# Altium schematic symbol library E2S_E2S_034_V1_BLE_Gateway.SchLib: 12 symbols
Pins are listed as number, name and electrical type; pins without a type are passive.

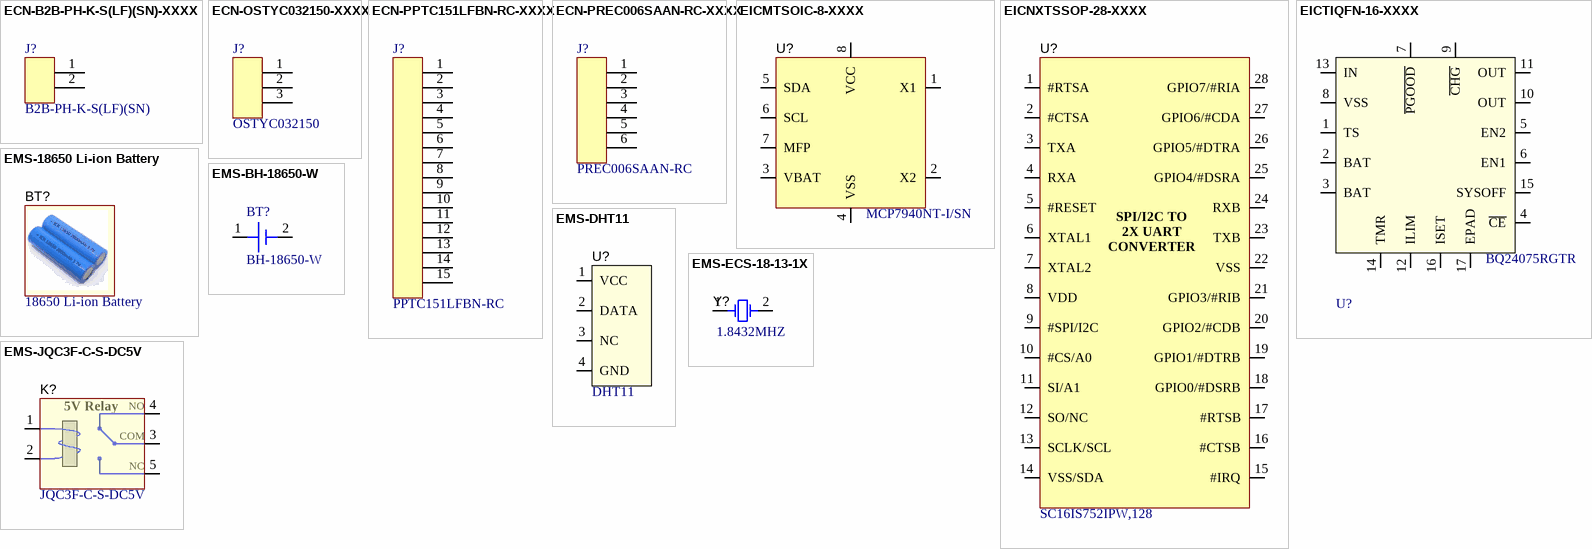
[diagram p0: symbols ECN-B2B-PH-K-S(LF)(SN)-XXXX to EMS-JQC3F-C-S-DC5V]

## ECN-B2B-PH-K-S(LF)(SN)-XXXX
designator J?, comment value B2B-PH-K-S(LF)(SN)  (hidden comment: CONN HEADER VERT 2POS 2MM)
Vendor Part Number: 455-1704-ND; Manufacturer: JST Sales America Inc.; Internal Part Number: ECN-B2B-PH-K-S(LF)(SN)-XXXX; 1st Auxiliary Field: 100V; 2nd Auxiliary Field: 2A; 3rd Auxiliary Field: ROHS3 Compliant; Vendor Name: Digi-Key; Component Height (mm): 6mm; Temp Co: -25°C ~ 85°C; Part Type: CONN HEADER VERT 2POS 2MM; Manufacturer Part Number: B2B-PH-K-S(LF)(SN); 4th Auxiliary Field: 2mm
footprint JST_B2B-PH-K-S(LF)(SN) (CONN HEADER PH SIDE 2POS 2MM)
pins: 1, 2

## ECN-OSTYC032150-XXXX
designator J?, comment value OSTYC032150  (hidden comment: TERM BLK 3P SIDE ENT 5.08MM PCB)
Vendor Part Number: ED2903-ND; Manufacturer: On Shore Technology Inc.; Internal Part Number: ECN-OSTYC032150-XXXX; 1st Auxiliary Field: 300V; 2nd Auxiliary Field: 10A; 3rd Auxiliary Field: ROHS3 Compliant; 4th Auxiliary Field: 3 Pos; Vendor Name: Digi-Key; Component Height (mm): 10mm; Temp Co: -30°C ~ 105°C; Part Type: TERM BLK 3P SIDE ENT 5.08MM PCB; Manufacturer Part Number: OSTYC032150
footprint ONSHORE_OSTYC032150 (TERM BLK 3P SIDE ENT 5.08MM PCB)
pins: 1, 2, 3

## ECN-PPTC151LFBN-RC-XXXX
designator J?, comment value PPTC151LFBN-RC  (hidden comment: CONN HDR 15POS 0.1 TIN PCB)
Vendor Part Number: S7013-ND; Manufacturer: Sullins Connector Solutions; Internal Part Number: ECN-PPTC151LFBN-RC-XXXX; 1st Auxiliary Field: 250V; 2nd Auxiliary Field: 3A; 3rd Auxiliary Field: ROHS3 Compliant; Vendor Name: Digi-Key; Component Height (mm): 8.51mm; Temp Co: -40°C ~ 105°C; Part Type: CONN HDR 15POS 0.1 TIN PCB; Manufacturer Part Number: PPTC151LFBN-RC; 4th Auxiliary Field: 15 Pos
footprint SULLINS_PPTC151LFBN-RC (CONN HDR 15POS 0.1 TIN PCB)
pins: 1, 2, 3, 4, 5, 6, 7, 8, 9, 10, 11, 12, 13, 14, 15

## ECN-PREC006SAAN-RC-XXXX
designator J?, comment value PREC006SAAN-RC  (hidden comment: CONN HEADER VERT 6POS 2.54MM)
Vendor Part Number: S1012EC-06-ND; Manufacturer: Sullins Connector Solutions; Internal Part Number: ECN-PREC006SAAN-RC-XXXX; 2nd Auxiliary Field: 3A per Contact; 3rd Auxiliary Field: ROHS3 Compliant; Vendor Name: Digi-Key; Component Height (mm): 8.34mm; Temp Co: -40°C ~ 105°C; Part Type: CONN HEADER VERT 6POS 2.54MM; 1st Auxiliary Field: 2.54mm; Manufacturer Part Number: PREC006SAAN-RC; 4th Auxiliary Field: 6 Pos
footprint HDRV6W64P254_1X6_1524X254X834P (CONN HEADER VERT 6POS 2.54MM)
pins: 1, 2, 3, 4, 5, 6

## EICMTSOIC-8-XXXX
designator U?, comment value MCP7940NT-I/SN  (hidden comment: IC RTC CLK/CALENDAR I2C 8-SOIC)
Manufacturer: Microchip Technology; Internal Part Number: EICMTSOIC-8-XXXX; Vendor Part Number: MCP7940NT-I/SNCT-ND; 3rd Auxiliary Field: ROHS3 Compliant; Component Height (mm): 1.75mm; Temp Co: -40°C ~ 85°C; 4th Auxiliary Field: I²C, 2-Wire Serial; Vendor Name: Digi-Key; 1st Auxiliary Field: 1.8V ~ 5.5V; 2nd Auxiliary Field: 1.2µA @ 3.3V; Manufacturer Part Number: MCP7940NT-I/SN; Part Type: IC RTC CLK/CALENDAR I2C 8-SOIC
footprint SOIC127P600X175-8N (LM555CMX, IC OSC SINGLE TIMER 8-SOP)
pins: 1 X1, 2 X2, 3 VBAT, 4 VSS, 5 SDA, 6 SCL, 7 MFP, 8 VCC

## EICNXTSSOP-28-XXXX
designator U?, comment value SC16IS752IPW,128  (hidden comment: IC DUAL UART 64BYTE 28TSSOP)
Manufacturer: NXP USA Inc.; Internal Part Number: EICNXTSSOP-28-XXXX; Vendor Part Number: 568-11944-1-ND; 3rd Auxiliary Field: ROHS3 Compliant; Component Height (mm): 1.1mm; Temp Co: -40°C ~ 95°C; 4th Auxiliary Field: I²C, SPI, UART; Vendor Name: Digi-Key; 1st Auxiliary Field: 2.5V, 3.3V; 2nd Auxiliary Field: 2mA; Manufacturer Part Number: SC16IS752IPW,128; Part Type: IC DUAL UART 64BYTE 28TSSOP
footprint TSOP65P640X110-28N (TSOP, 28-Leads, Body 9.70x4.40mm, Pitch 0.65mm, IPC Medium Density)
pins: 1 #RTSA, 2 #CTSA, 3 TXA, 4 RXA, 5 #RESET, 6 XTAL1, 7 XTAL2, 8 VDD, 9 #SPI/I2C, 10 #CS/A0, 11 SI/A1, 12 SO/NC, 13 SCLK/SCL, 14 VSS/SDA, 15 #IRQ, 16 #CTSB, 17 #RTSB, 18 GPIO0/#DSRB, 19 GPIO1/#DTRB, 20 GPIO2/#CDB, 21 GPIO3/#RIB, 22 VSS, 23 TXB, 24 RXB, 25 GPIO4/#DSRA, 26 GPIO5/#DTRA, 27 GPIO6/#CDA, 28 GPIO7/#RIA
text: SPI/I2C TO / 2X UART / CONVERTER

## EICTIQFN-16-XXXX
designator U?, comment value BQ24075RGTR  (hidden comment: IC BATT CHG LI-ION 1CELL 16QFN)
Manufacturer: Texas Instruments; Internal Part Number: EICTIQFN-16-XXXX; Vendor Part Number: 296-38874-1-ND; 3rd Auxiliary Field: ROHS3 Compliant; Component Height (mm): 13.46mm; Temp Co: -40°C ~ 125°C (TJ); 4th Auxiliary Field: 4.2V; Vendor Name: Digi-Key; 1st Auxiliary Field: 6.4V; 2nd Auxiliary Field: 1.5A; Manufacturer Part Number: BQ24075RGTR; Part Type: IC BATT CHG LI-ION 1CELL 16QFN
footprint QFN50P300X300X100_HS-17N (QFN, 16-Leads, Body 3.00x3.00mm, Pitch 0.50mm, Thermal Pad 1.45x1.45mm, IPC Medium Density)
pins: 1 TS, 2 BAT, 3 BAT, 4 ~{CE}, 5 EN2, 6 EN1, 7 ~{PGOOD}, 8 VSS, 9 ~{CHG}, 10 OUT, 11 OUT, 12 ILIM, 13 IN, 14 TMR, 15 SYSOFF, 16 ISET, 17 EPAD

## EMS-18650 Li-ion Battery
designator BT?, comment value 18650 Li-ion Battery  (hidden comment: LITHIUM-ION RECHARGEABLE CELL 3.7V 2000MAH)  (mechanical)
Manufacturer: Robokits; Internal Part Number: EMS-18650 Li-ion Battery; Manufacturer Part Number: 18650 Li-ion Battery; 3rd Auxiliary Field: *; Component Height (mm): *; Part Type: LITHIUM-ION RECHARGEABLE CELL 3.7V 2000MAH; Temp Co: *; 4th Auxiliary Field: *; Vendor Name: Robokits; Vendor Part Number: RKI-4735; 1st Auxiliary Field: 3.7V; 2nd Auxiliary Field: 2000mAh

## EMS-BH-18650-W
designator BT?, comment value BH-18650-W  (hidden comment: BATTERY HOLDER 18650 6" LEADS)  (mechanical)
Manufacturer: MPD (Memory Protection Devices); Internal Part Number: EMS-BH-18650-W; Vendor Part Number: BH-18650-PC-ND; 3rd Auxiliary Field: RoHS Compliant; Component Height (mm): 21.31mm; Temp Co: -40°C ~ 180°C; Vendor Name: Digi-Key; 1st Auxiliary Field: 1 Cell; 2nd Auxiliary Field: 18650; Manufacturer Part Number: BH-18650-W; Part Type: BATTERY HOLDER 18650 6" LEADS; 4th Auxiliary Field: *
footprint BAT_BH-18650-PC (BATTERY HOLDER 18650 PC PIN)
pins: 1 +VE, 2 -VE

## EMS-DHT11
designator U?, comment value DHT11  (hidden comment: Temperature and Humidity sensor)
Manufacturer: Aosong Electronics; Internal Part Number: EMS-DHT11; Vendor Part Number: EC-0980; Component Height (mm): 15.5mm; Vendor Name: ELECTRONICSCOMP; 1st Auxiliary Field: 3 to 5V; 2nd Auxiliary Field: 2.5mA max; Manufacturer Part Number: DHT11; 3rd Auxiliary Field: *; Part Type: Temperature and Humidity sensor; Temp Co: *; 4th Auxiliary Field: *
footprint MOD_DHT11 (Footprint not found)
pins: 1 VCC, 2 DATA, 3 NC (power), 4 GND (power)

## EMS-ECS-18-13-1X
designator Y?, comment value 1.8432MHZ  (hidden comment: CRYSTAL 1.8432MHZ 13PF TH)
Manufacturer Part Number: ECS-18-13-1X; Manufacturer: ECS Inc.; Internal Part Number: EMS-ECS-18-13-1X; Vendor Part Number: X1000-ND; 3rd Auxiliary Field: ROHS3 Compliant; Component Height (mm): 13.46mm; Temp Co: -10°C ~ 70°C; 4th Auxiliary Field: 750 Ohms; Vendor Name: Digi-Key; 1st Auxiliary Field: ±30ppm; Part Type: CRYSTAL 1.8432MHZ 13PF TH; 2nd Auxiliary Field: 13pF
footprint XTAL_ECS-18-13-1X (CRYSTAL 1.8432MHZ 13PF TH)
pins: 1 IN, 2 OUT

## EMS-JQC3F-C-S-DC5V
designator K?, comment value JQC3F-C-S-DC5V  (hidden comment: 5V 7A 5Pin Miniature High Power Relay SPDT PCB Mount)
Manufacturer: HE Relay; Internal Part Number: EMS-JQC3F-C-S-DC5V; Vendor Part Number: 083-JQC3F-C-S-DC5V; 3rd Auxiliary Field: RoHS Compliant; Component Height (mm): 15.5mm; Temp Co: -40°C ~ 85°C; 4th Auxiliary Field: 230V(7A); Vendor Name: evelta; 2nd Auxiliary Field: 72mA; Manufacturer Part Number: JQC3F-C-S-DC5V; Part Type: 5V 7A 5Pin Miniature High Power Relay SPDT PCB Mount; 1st Auxiliary Field: 5V
footprint RELAY_JQC3F-C-S-DC5V (RELAY SPDT)
pins: 1 T1, 2 T2, 3 COM (power), 4 NO (power), 5 NC (power)
text: 5V Relay